# Altium footprint library TL431LIACDBZR.PcbLib: 3 footprints
Each footprint in its own frame and in the unit in brackets; x right, y up, seen from the top. Pads: shape width x height; smd on the part's side, far side on the other; paste and mask are expansions set on the pad; w line width, h text height; cw(c..) or ccw(c..) is an arc to the next point about the centre after c.
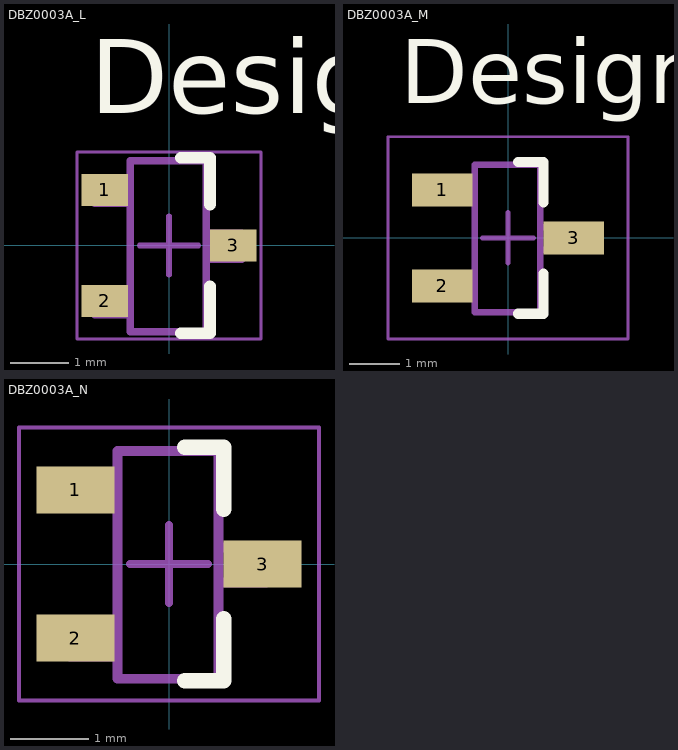
[diagram p0: the footprints below, top view; thin cyan lines are the x and y axes]

## DBZ0003A_L [mm]
pads (3):
  rect 0.8x0.55 smd paste+0 mask+0.051: 1(-1.1,0.95) 2(-1.1,-0.95) 3(1.1,0)
Top Overlay:
  lines w0.2: 0.2,-1.5 0.7,-1.5 0.7,-0.7 ; 0.2,1.5 0.7,1.5 0.7,0.7
  text "Designator750" at -1.346,2.261 h1.27
Mechanical 13:
  lines w0.127: -1.27,-1.187 -1.27,-0.743 -1.063,-0.743 -1.005,-0.743 -0.814,-0.743 -0.66,-0.743 -0.66,-1.187 -0.814,-1.187 -1.005,-1.187 -1.063,-1.187 -1.27,-1.187 ; -1.27,0.718 -1.27,1.162 -1.063,1.162 -1.005,1.162 -0.814,1.162 -0.66,1.162 -0.66,0.718 -0.814,0.718 -1.005,0.718 -1.063,0.718 -1.27,0.718 ; -0.66,-1.473 -0.66,1.448 0.635,1.448 0.635,-1.473 -0.66,-1.473 ; 0.635,-0.235 0.789,-0.235 0.98,-0.235 1.037,-0.235 1.245,-0.235 1.245,0.21 1.037,0.21 0.98,0.21 0.789,0.21 0.635,0.21 0.635,-0.235
  text ".Designator" at -0.889,0.889 h1.27
Mechanical 15:
  lines w0.05: -1.575,-1.6 -1.575,1.6 1.575,1.6 1.575,-1.6 -1.575,-1.6
  lines w0.1: -0.5,0 0.5,0 ; 0,-0.5 0,0.5
3D body: height 0.25, standoff 0, extent 0,0 0.254,0.254

## DBZ0003A_M [mm]
pads (3):
  rect 1.2x0.65 smd paste+0 mask+0.051: 1(-1.3,0.95) 2(-1.3,-0.95) 3(1.3,0)
Top Overlay:
  lines w0.2: 0.2,-1.5 0.7,-1.5 0.7,-0.7 ; 0.2,1.5 0.7,1.5 0.7,0.7
  text "Designator748" at -2.134,2.667 h1.27
Mechanical 13:
  lines w0.127: -1.27,-1.187 -1.063,-1.187 -1.005,-1.187 -0.814,-1.187 -0.66,-1.187 -0.66,-0.743 -0.814,-0.743 -1.005,-0.743 -1.063,-0.743 -1.27,-0.743 -1.27,-1.187 ; -1.27,0.718 -1.063,0.718 -1.005,0.718 -0.814,0.718 -0.66,0.718 -0.66,1.162 -0.814,1.162 -1.005,1.162 -1.063,1.162 -1.27,1.162 -1.27,0.718 ; -0.66,-1.473 0.635,-1.473 0.635,1.448 -0.66,1.448 -0.66,-1.473 ; 0.635,-0.235 0.635,0.21 0.789,0.21 0.98,0.21 1.037,0.21 1.245,0.21 1.245,-0.235 1.037,-0.235 0.98,-0.235 0.789,-0.235 0.635,-0.235
  text ".Designator" at -0.889,0.889 h1.27
Mechanical 15:
  lines w0.05: -2.375,-2 -2.375,2 2.375,2 2.375,-2 -2.375,-2
  lines w0.1: -0.5,0 0.5,0 ; 0,-0.5 0,0.5
3D body: height 0.25, standoff 0, extent 0,0 0.254,0.254

## DBZ0003A_N [mm]
pads (3):
  rect 1x0.6 smd paste+0 mask+0.051: 1(-1.2,0.95) 2(-1.2,-0.95) 3(1.2,0)
Top Overlay:
  lines w0.2: 0.2,-1.5 0.7,-1.5 0.7,-0.7 ; 0.2,1.5 0.7,1.5 0.7,0.7
Mechanical 13:
  lines w0.127: -1.27,-1.187 -1.27,-0.743 -1.063,-0.743 -1.005,-0.743 -0.814,-0.743 -0.66,-0.743 -0.66,-1.187 -0.814,-1.187 -1.005,-1.187 -1.063,-1.187 -1.27,-1.187 ; -1.27,0.718 -1.27,1.162 -1.063,1.162 -1.005,1.162 -0.814,1.162 -0.66,1.162 -0.66,0.718 -0.814,0.718 -1.005,0.718 -1.063,0.718 -1.27,0.718 ; -0.66,-1.473 -0.66,1.448 0.635,1.448 0.635,-1.473 -0.66,-1.473 ; 0.635,-0.235 0.789,-0.235 0.98,-0.235 1.037,-0.235 1.245,-0.235 1.245,0.21 1.037,0.21 0.98,0.21 0.789,0.21 0.635,0.21 0.635,-0.235
  text ".Designator" at -0.889,0.889 h1.27
Mechanical 15:
  lines w0.05: -1.925,-1.75 1.925,-1.75 1.925,1.75 -1.925,1.75 -1.925,-1.75
  lines w0.1: -0.5,0 0.5,0 ; 0,-0.5 0,0.5
3D body: height 0.25, standoff 0, extent 0,0 0.254,0.254